# EAGLE library part FTR-K1CK005W (library BlueHome)
General Purpose Relays POWER Source: Datasheet <https://componentsearchengine.com/Datasheets/1/FTR-K1CK005W.pdf>
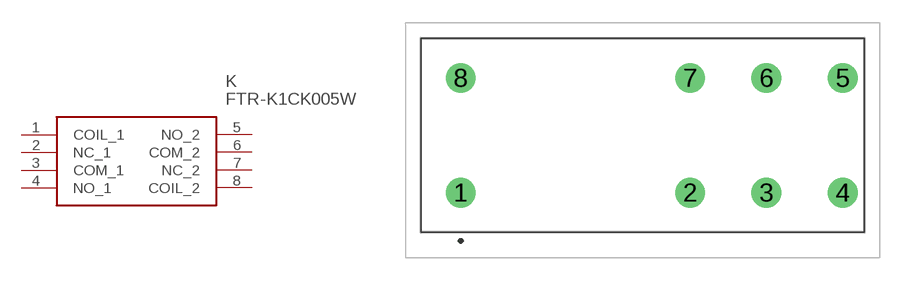
[diagram p19: symbol with the pads of FTRK1CK005W; footprint FTRK1CK005W]

Designator prefix K

## FTR-K1CK005W (DESCRIPTION: General Purpose Relays POWER; HEIGHT: 15mm; MANUFACTURER_NAME: FUJITSU; MANUFACTURER_PART_NUMBER: FTR-K1CK005W; MOUSER_PART_NUMBER: 817-FTR-K1CK005W)  [FTRK1CK005W]
1  COIL_1
2  NC_1
3  COM_1
4  NO_1
5  NO_2
6  COM_2
7  NC_2
8  COIL_2

## Footprint FTRK1CK005W (pad centres in mm)
FTR-K1_FFW
drill 1.3 pad 1.95: 1 2.6,-3.75; 2 17.6,-3.75; 3 22.6,-3.75; 4 27.6,-3.75; 5 27.6,3.75; 6 22.6,3.75; 7 17.6,3.75; 8 2.6,3.75